# Altium footprint library tokgoz.PcbLib: 2 footprints
Each footprint in its own frame and in the unit in brackets; x right, y up, seen from the top. Pads: shape width x height; smd on the part's side, far side on the other; paste and mask are expansions set on the pad; w line width, h text height; cw(c..) or ccw(c..) is an arc to the next point about the centre after c.
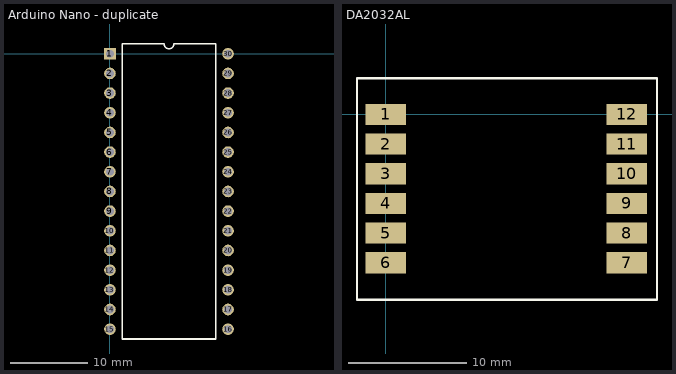
[diagram p0: the footprints below, top view; thin cyan lines are the x and y axes]

## Arduino Nano - duplicate [mm]
pads (30):
  rect 1.5x1.5 hole 1: 1(0,0)
  round 1.5 hole 1: 2(0,-2.54) 3(0,-5.08) 4(0,-7.62) 5(0,-10.16) 6(0,-12.7) 7(0,-15.24) 8(0,-17.78) 9(0,-20.32) 10(0,-22.86) 11(0,-25.4) 12(0,-27.94) 13(0,-30.48) 14(0,-33.02) 15(0,-35.56) 16(15.24,-35.56) 17(15.24,-33.02) 18(15.24,-30.48) 19(15.24,-27.94) 20(15.24,-25.4) 21(15.24,-22.86) 22(15.24,-20.32) 23(15.24,-17.78) 24(15.24,-15.24) 25(15.24,-12.7) 26(15.24,-10.16) 27(15.24,-7.62) 28(15.24,-5.08) 29(15.24,-2.54) 30(15.24,0)
Top Overlay:
  lines w0.2: 1.585,-36.83 13.655,-36.83 13.655,1.27 8.255,1.27 cw(c7.62,1.27) 6.985,1.27 1.585,1.27 1.585,-36.83
3D body "arduino nano.STEP": height 10.1, standoff -8.5, extent -1.38,-40.269 16.62,4.731

## DA2032AL [mm]
pads (12):
  rect 3.43x1.79 smd: 1(0,0) 2(0,-2.5) 3(0,-5) 4(0,-7.5) 5(0,-10) 6(0,-12.5) 7(20.31,-12.5) 8(20.31,-10) 9(20.31,-7.5) 10(20.31,-5) 11(20.31,-2.5) 12(20.31,0)
Top Overlay:
  lines w0.2: -2.413,-15.621 22.86,-15.621 22.86,3.048 12.324,3.048 -2.413,3.048 -2.413,-15.621
3D body "Coilcraft-DA2032-AL.SLDPRT": height 8.64, standoff -0.3, extent -0.84,-14.95 21.16,2.25